# Altium footprint library 691 214 110 0xx.PcbLib: 2 footprints
Each footprint in its own frame and in the unit in brackets; x right, y up, seen from the top. Pads: shape width x height; smd on the part's side, far side on the other; paste and mask are expansions set on the pad; w line width, h text height; cw(c..) or ccw(c..) is an arc to the next point about the centre after c.
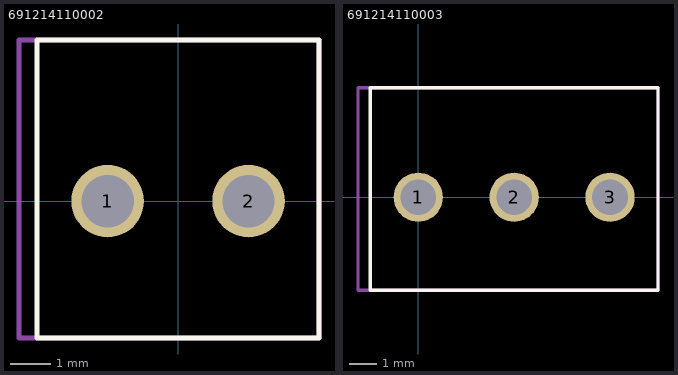
[diagram p0: the footprints below, top view; thin cyan lines are the x and y axes]

## 691214110002 [mm] "3,50mm - Horizontal wire entry - Rising cage clamp - 02p"
height 8.5
pads (2):
  round 1.8 hole 1.3: 1(-1.75,0) 2(1.75,0)
Top Overlay:
  lines w0.127: -3.5,-3.4 3.5,-3.4 3.5,4 -3.5,4 -3.5,-3.4
Mechanical 13:
  lines w0.127: -3.95,-3.4 -3.95,4 3.5,4 3.5,-3.4 -3.95,-3.4
3D body: height 8.51, standoff -3.69, extent -3.9,-3.4 3.5,4

## 691214110003 [mm] "3,50mm - Horizontal wire entry - Rising cage clamp - 03p"
height 8.5
pads (3):
  round 1.8 hole 1.3: 1(0,0) 2(3.5,0) 3(7,0)
Top Overlay:
  lines w0.127: -1.75,-3.4 -1.75,4 8.75,4 8.75,-3.4 -1.75,-3.4
Mechanical 13:
  lines w0.127: -2.2,-3.4 8.75,-3.4 8.75,4 -2.2,4 -2.2,-3.4
3D body: height 8.51, standoff -3.69, extent -2.15,-3.4 8.75,4